# Altium footprint library Pro-Active.PCBLIB: 14 footprints
Each footprint in its own frame and in the unit in brackets; x right, y up, seen from the top. Pads: shape width x height; smd on the part's side, far side on the other; paste and mask are expansions set on the pad; w line width, h text height; cw(c..) or ccw(c..) is an arc to the next point about the centre after c.
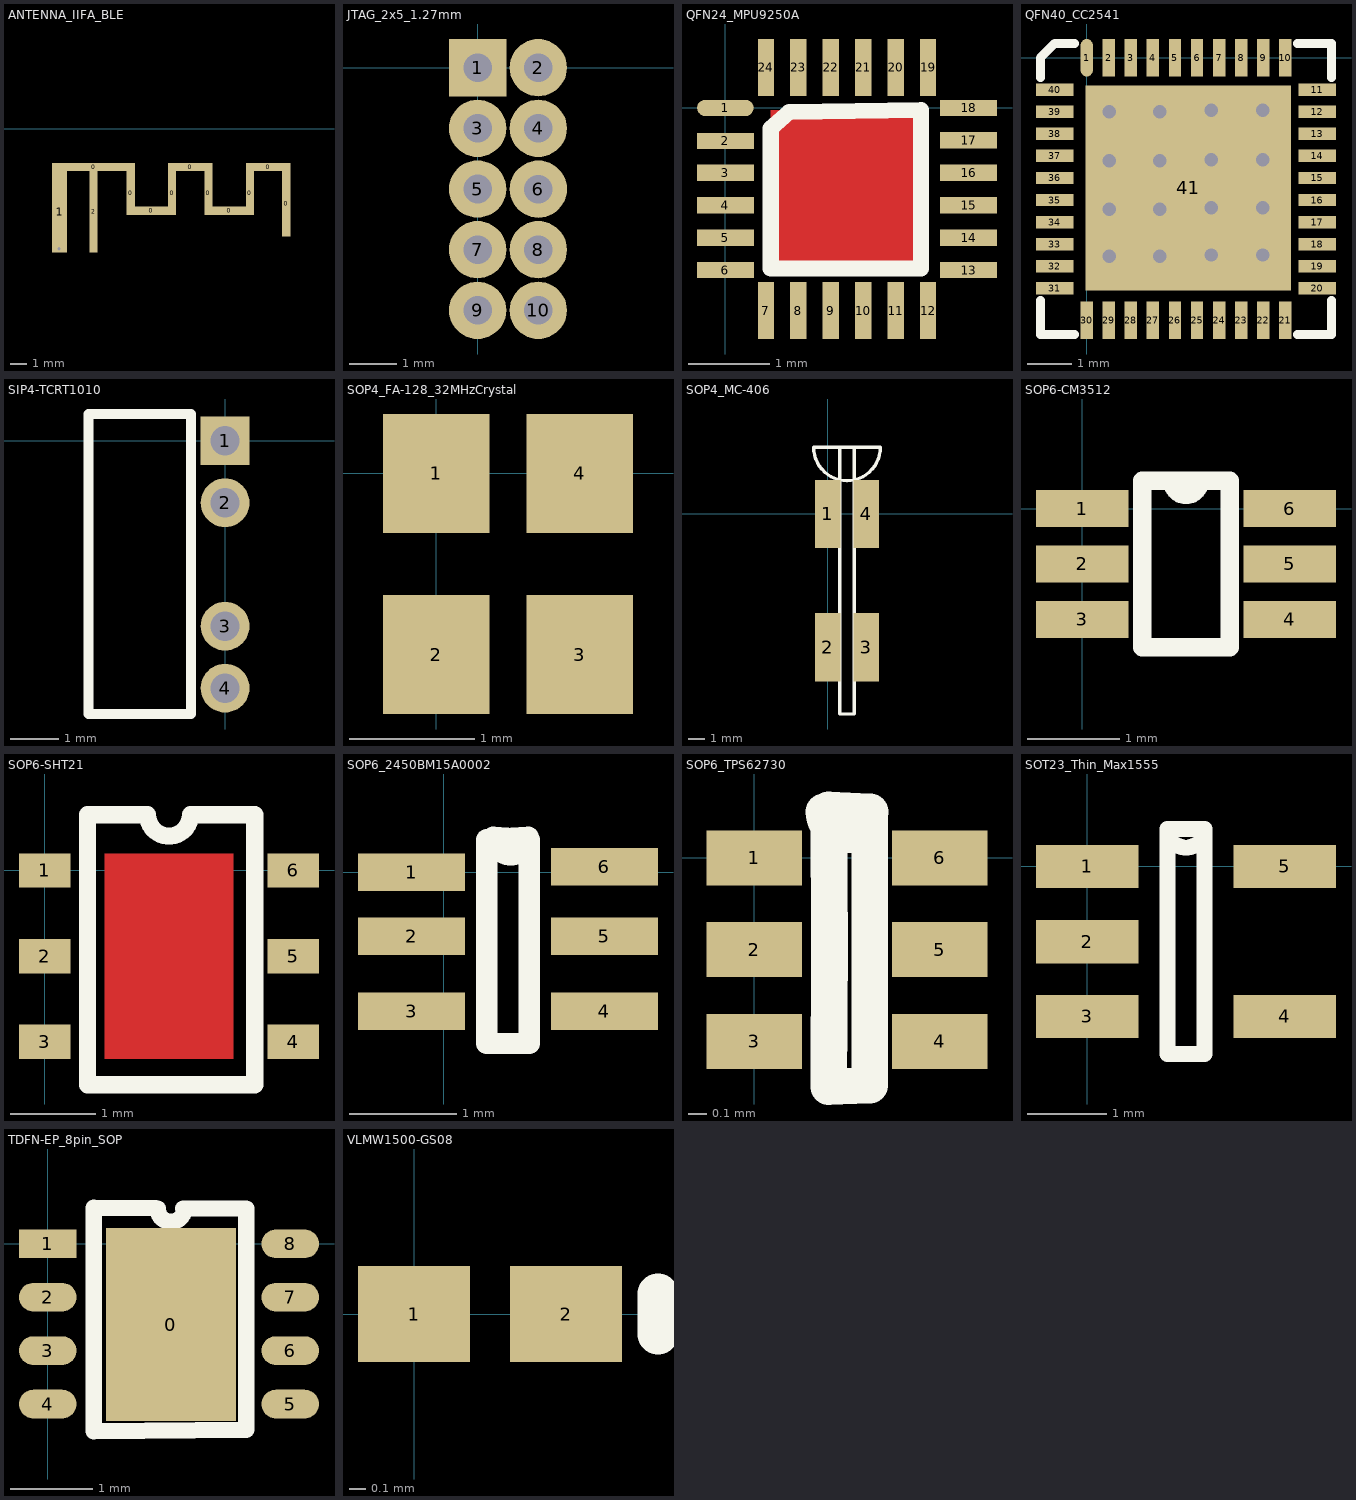
[diagram p0: the footprints below, top view; thin cyan lines are the x and y axes]

## ANTENNA_IIFA_BLE [mm]
pads (12):
  rect 5x0.5 smd: 0(6.65,-2.3)
  rect 0.5x2.64 smd: 0(8.9,-3.87) 0(11.391,-3.872) 0(13.591,-3.872) 0(16.093,-3.872)
  rect 2x0.5 smd: 0(10.146,-4.939) 0(14.841,-4.942)
  rect 2.7x0.5 smd: 0(12.491,-2.302) 0(17.193,-2.302)
  rect 0.5x3.94 smd: 0(18.293,-4.521)
  rect 0.9x4.9 smd: 1(4.6,-5)
  rect 0.5x4.9 smd: 2(6.65,-5)
via 4.563,-7.226 diameter 0.254 hole 0.203

## JTAG_2x5_1.27mm [mm]
pads (10):
  rect 1.2x1.2 hole 0.6: 1(0,0)
  round 1.2 hole 0.6: 2(1.27,0) 3(0,-1.27) 4(1.27,-1.27) 5(0,-2.54) 6(1.272,-2.543) 7(0,-3.81) 8(1.27,-3.81) 9(0,-5.08) 10(1.27,-5.08)

## QFN24_MPU9250A [mm] "Accelerometer, Gyro and Compass in a single QFN Package"
height 1
pads (24):
  oval 0.7x0.2 smd: 1(0,0)
  rect 0.7x0.2 smd: 2(0,-0.406) 3(0,-0.8) 4(0,-1.2) 5(0,-1.6) 6(0,-2) 13(3,-2) 14(3,-1.6) 15(3,-1.2) 16(3,-0.8) 17(3,-0.4) 18(3,0)
  rect 0.2x0.7 smd: 7(0.5,-2.5) 8(0.9,-2.5) 9(1.3,-2.5) 10(1.7,-2.5) 11(2.1,-2.5) 12(2.5,-2.5) 19(2.5,0.5) 20(2.1,0.5) 21(1.7,0.5) 22(1.3,0.5) 23(0.9,0.5) 24(0.5,0.5)
Top Layer:
  rectangle: 0.559,-1.981 2.413,-0.025
Top Overlay:
  lines w0.2: 0.559,-1.981 0.559,-0.254 0.787,-0.051 2.413,-0.025 2.413,-1.981 0.559,-1.981

## QFN40_CC2541 [mm]
pads (41):
  oval 0.28x0.85 smd: 1(0,0)
  rect 0.28x0.85 smd: 2(0.5,0) 3(1,0) 4(1.5,0) 5(2,0) 6(2.5,0) 7(3,0) 8(3.5,0) 9(4,0) 10(4.5,0) 21(4.5,-5.95) 22(4,-5.95) 23(3.5,-5.95) 24(3,-5.95) 25(2.5,-5.95) 26(2,-5.95) 27(1.5,-5.95) 28(1,-5.95) 29(0.5,-5.95) 30(0,-5.95)
  rect 0.85x0.28 smd: 11(5.225,-0.725) 12(5.225,-1.225) 13(5.225,-1.725) 14(5.225,-2.225) 15(5.225,-2.725) 16(5.225,-3.225) 17(5.225,-3.725) 18(5.225,-4.225) 19(5.225,-4.725) 20(5.225,-5.225) 31(-0.725,-5.225) 32(-0.725,-4.725) 33(-0.725,-4.225) 34(-0.725,-3.725) 35(-0.725,-3.225) 36(-0.725,-2.725) 37(-0.725,-2.225) 38(-0.725,-1.725) 39(-0.725,-1.225) 40(-0.725,-0.725)
  rect 4.65x4.65 smd: 41(2.3,-2.95)
via 0.508,-1.219 diameter 0.635 hole 0.305
via 1.651,-1.219 diameter 0.635 hole 0.305
via 3.988,-1.194 diameter 0.635 hole 0.305
via 2.819,-1.194 diameter 0.635 hole 0.305
via 2.819,-2.311 diameter 0.635 hole 0.305
via 3.988,-2.311 diameter 0.635 hole 0.305
via 1.651,-2.337 diameter 0.635 hole 0.305
via 0.508,-2.337 diameter 0.635 hole 0.305
via 2.819,-3.404 diameter 0.635 hole 0.305
via 3.988,-3.404 diameter 0.635 hole 0.305
via 1.651,-3.429 diameter 0.635 hole 0.305
via 0.508,-3.429 diameter 0.635 hole 0.305
via 2.819,-4.47 diameter 0.635 hole 0.305
via 3.988,-4.47 diameter 0.635 hole 0.305
via 1.651,-4.496 diameter 0.635 hole 0.305
via 0.508,-4.496 diameter 0.635 hole 0.305
Top Overlay:
  lines w0.2: -1.05,-5.505 -1.05,-6.275 -0.28,-6.275 ; -1.05,-0.445 -1.05,0 -0.725,0.325 -0.28,0.325 ; 4.78,-6.275 5.55,-6.275 5.55,-5.505 ; 4.78,0.325 5.55,0.325 5.55,-0.445

## SIP4-TCRT1010 [mm]
pads (4):
  rect 1x1 hole 0.6: 1(0,0)
  round 1 hole 0.6: 2(0,-1.27) 3(0,-3.8) 4(0,-5.07)
Top Overlay:
  lines w0.2: -2.8,-5.6 -0.7,-5.6 -0.7,0.55 -2.8,0.55 -2.8,-5.6

## SOP4_FA-128_32MHzCrystal [mm]
pads (4):
  rect 0.85x0.95 smd: 1(0,0) 2(0,-1.45) 3(1.15,-1.45) 4(1.15,0)

## SOP4_MC-406 [mm]
pads (4):
  rect 1.52x4.1 smd: 1(0,0) 2(0,-8) 3(2.32,-8) 4(2.32,0)
Top Overlay:
  lines w0.2: -0.84,4 ccw(c1.16,4) 3.16,4 0.725,4 0.725,-12 1.595,-12 1.595,4 -0.84,4

## SOP6-CM3512 [mm]
pads (6):
  rect 1x0.4 smd: 1(0,0) 2(0,-0.6) 3(0,-1.2) 4(2.25,-1.2) 5(2.25,-0.6) 6(2.25,0)
Top Overlay:
  lines w0.2: 0.65,-1.5 0.65,0.3 1.275,0.3 cw(c1.125,0.3) 0.975,0.3 1.6,0.3 1.6,-1.5 0.65,-1.5

## SOP6-SHT21 [mm]
height 1.1
pads (6):
  rect 0.6x0.4 smd: 1(0,0) 2(0,-1) 3(0,-2) 4(2.9,-2) 5(2.9,-1) 6(2.9,0)
Top Layer:
  rectangle: 0.7,-2.2 2.2,0.2
Top Overlay:
  lines w0.2: 0.5,-2.5 0.5,0.65 0.85,0.65 1.2,0.65 ccw(c1.45,0.65) 1.7,0.65 2.45,0.65 2.45,-2.5 0.5,-2.5

## SOP6_2450BM15A0002 [mm]
pads (6):
  rect 1x0.35 smd: 1(-0.3,0) 2(-0.3,-0.6) 3(-0.3,-1.3) 4(1.5,-1.3) 5(1.5,-0.6) 6(1.5,0.05)
Top Overlay:
  lines w0.2: 0.4,-1.6 0.4,-0.7 0.4,0.3 0.787,0.325 cw(c0.625,0.325) 0.463,0.325 0.8,0.3 0.8,-0.6 0.8,-1.6 0.4,-1.6

## SOP6_TPS62730 [mm]
pads (6):
  rect 0.52x0.3 smd: 1(0,0) 2(0,-0.5) 3(0,-1) 4(1.01,-1) 5(1.01,-0.5) 6(1.01,0)
Top Overlay:
  lines w0.2: 0.38,0.25 ccw(c0.505,0.25) 0.63,0.25 0.406,0.261 0.41,-0.479 0.406,-1.248 0.629,-1.24 0.629,0.249 0.38,0.25

## SOT23_Thin_Max1555 [mm]
pads (5):
  rect 1.3x0.55 smd: 1(0,0) 2(0.001,-0.951) 3(0,-1.9) 4(2.5,-1.9) 5(2.5,0)
Top Overlay:
  lines w0.2: 1.012,0.475 ccw(c1.25,0.475) 1.488,0.475 1.015,0.475 1.015,-2.375 1.485,-2.375 1.485,0.475 1.012,0.475

## TDFN-EP_8pin_SOP [mm]
pads (9):
  rect 1.58x2.35 smd: 0(1.498,-0.984)
  rect 0.7x0.35 smd: 1(0,0)
  oval 0.7x0.35 smd: 2(0,-0.65) 3(0,-1.3) 4(0,-1.95) 5(2.95,-1.95) 6(2.95,-1.3) 7(2.95,-0.65) 8(2.95,0)
Top Overlay:
  lines w0.2: 1.312,0.435 0.558,0.44 0.56,-2.282 2.416,-2.263 2.416,0.429 1.65,0.429 ; 1.336,0.429 ccw(c1.499,0.429) 1.661,0.429

## VLMW1500-GS08 [mm] "LED digikey part # VLMW1500-GS08 Footprint, size: 0402"
height 0.35
pads (2):
  rect 0.7x0.6 smd: 1(0,0) 2(0.95,0)
Top Overlay:
  lines w0.254: 1.524,-0.127 1.524,0.127